# Altium footprint library L_SMD_3D.PcbLib: 12 footprints
Each footprint in its own frame and in the unit in brackets; x right, y up, seen from the top. Pads: shape width x height; smd on the part's side, far side on the other; paste and mask are expansions set on the pad; w line width, h text height; cw(c..) or ccw(c..) is an arc to the next point about the centre after c.
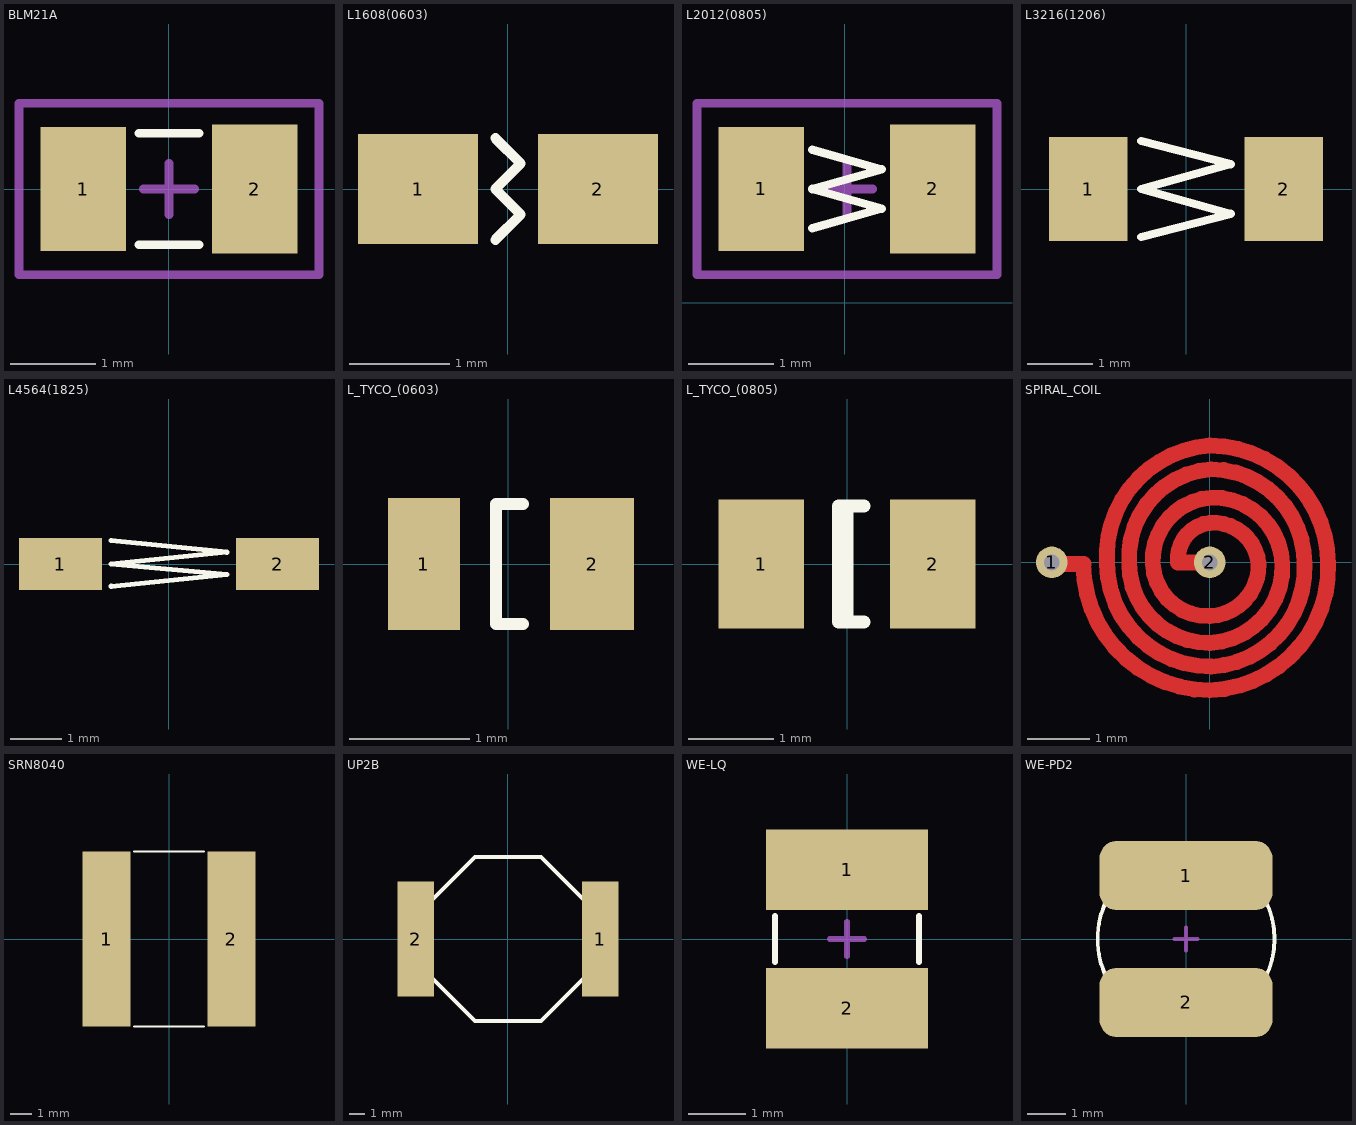
[diagram p0: the footprints below, top view; thin cyan lines are the x and y axes]

## BLM21A [mm] "Ferrit Bead 2x1.25mm"
height 0.9
pads (2):
  rect 1x1.45 smd: 1(-1,0)
  rect 1x1.5 smd: 2(1,0)
Top Overlay:
  lines w0.1: -0.35,-0.65 0.35,-0.65 ; -0.35,0.65 0.35,0.65
Pick&Place:
  lines w0.1: -0.3,0 0.3,0 ; 0,-0.3 0,0.3 ; -1.75,-1 1.75,-1 1.75,1 -1.75,1 -1.75,-1
3D body: height 0.9, standoff 0, extent -1.05,-0.6 -0.6,0.6
3D body: height 0.9, standoff 0, extent 0.6,-0.6 1.05,0.6
3D body: height 0.9, standoff 0, extent -0.6,-0.6 0.6,0.6

## L1608(0603) [mm] "Chip Inductor, Body 1.6x0.8mm"
height 0.71
pads (2):
  rect 1.2x1.1 smd: 1(-0.9,0) 2(0.9,0)
Top Overlay:
  lines w0.1: -0.127,-0.508 0.127,-0.254 -0.127,0 0.127,0.254 -0.127,0.508

## L2012(0805) [mm] "Chip Inductor; Body 2.0 x 1.2 mm"
height 1.2
pads (2):
  rect 1x1.45 smd: 1(-0.975,1.325)
  rect 1x1.5 smd: 2(1.025,1.325)
Top Overlay:
  lines w0.1: -0.381,0.868 0.431,1.096 -0.381,1.325 0.431,1.554 -0.381,1.782
Pick&Place:
  lines w0.1: -0.275,1.325 0.325,1.325 ; 0.025,1.025 0.025,1.625 ; -1.725,0.325 1.775,0.325 1.775,2.325 -1.725,2.325 -1.725,0.325
3D body: height 0.6, standoff 0, extent -1.025,0.725 -0.575,1.925
3D body: height 0.6, standoff 0, extent 0.625,0.725 1.075,1.925
3D body: height 0.6, standoff 0, extent -0.575,0.725 0.625,1.925

## L3216(1206) [mm] "Chip Inductor; Body 3.2 x 1.6 mm"
height 1.9
pads (2):
  rect 1.2x1.6 smd: 1(-1.5,0) 2(1.5,0)
Top Overlay:
  lines w0.127: -0.686,-0.737 0.686,-0.381 -0.686,0 0.686,0.381 -0.686,0.737

## L4564(1825) [mm] "Chip Inductor; Body 4.5 x 6.4 mm"
height 1.9
pads (2):
  rect 1.6x1 smd: 1(-2.1,0) 2(2.1,0)
Top Overlay:
  lines w0.1: -1.118,-0.432 1.118,-0.203 -1.118,0 1.118,0.229 -1.118,0.457

## L_TYCO_(0603) [mm] "Chip Inductor; 1,8 x 1,1 mm"
height 1
pads (2):
  rect 0.6x1.1 smd: 1(-0.7,0)
  rect 0.7x1.1 smd: 2(0.7,0)
Top Overlay:
  lines w0.1: 0.125,-0.5 -0.1,-0.5 -0.1,0.5 0.125,0.5
3D body: height 0.3, standoff 0.25, extent 0.25,-0.475 0.375,0.475
3D body: height 0.3, standoff 0.25, extent 0.125,-0.475 0.25,0.475
3D body: height 0.3, standoff 0.25, extent 0,-0.475 0.125,0.475
3D body: height 0.3, standoff 0.25, extent -0.125,-0.475 0,0.475
3D body: height 0.3, standoff 0.25, extent -0.25,-0.475 -0.125,0.475
3D body: height 0.3, standoff 0.25, extent -0.35,-0.475 -0.25,0.475
3D body: height 1, standoff 0.6, extent -0.9,-0.55 -0.875,0.55
3D body: height 1, standoff 0.6, extent 0.875,-0.55 0.9,0.55
3D body: height 1, standoff 0.6, extent -0.9,-0.55 0.9,-0.525
3D body: height 1, standoff 0.6, extent -0.9,0.525 0.9,0.55
3D body: height 0.9, standoff 0.2, extent 0.575,-0.525 0.875,0.525
3D body: height 0.9, standoff 0.2, extent -0.875,-0.525 -0.575,0.525
3D body: height 0.9, standoff 0.3, extent -0.875,-0.475 0.875,0.475
3D body: height 1, standoff 0.95, extent -0.9,-0.55 0.9,0.55
3D body: height 0.2, standoff 0, extent -0.9,-0.525 -0.55,0.525
3D body: height 0.2, standoff 0, extent 0.55,-0.525 0.9,0.525
3D body: height 0.95, standoff 0.9, extent -0.35,-0.475 -0.25,0.475
3D body: height 0.95, standoff 0.9, extent -0.25,-0.475 -0.125,0.475
3D body: height 0.95, standoff 0.9, extent -0.125,-0.475 0,0.475
3D body: height 0.95, standoff 0.25, extent -0.3,-0.525 -0.25,-0.475
3D body: height 0.95, standoff 0.25, extent -0.175,-0.525 -0.125,-0.475
3D body: height 0.95, standoff 0.25, extent -0.05,-0.525 0,-0.475
3D body: height 0.95, standoff 0.25, extent -0.35,0.475 -0.3,0.525
3D body: height 0.95, standoff 0.25, extent -0.25,0.475 -0.2,0.525
3D body: height 0.95, standoff 0.25, extent -0.125,0.475 -0.075,0.525
3D body: height 0.95, standoff 0.9, extent 0,-0.475 0.125,0.475
3D body: height 0.95, standoff 0.9, extent 0.125,-0.475 0.25,0.475
3D body: height 0.95, standoff 0.9, extent 0.25,-0.475 0.375,0.475
3D body: height 0.95, standoff 0.25, extent 0,0.475 0.05,0.525
3D body: height 0.95, standoff 0.25, extent 0.125,0.475 0.175,0.525
3D body: height 0.95, standoff 0.25, extent 0.25,0.475 0.3,0.525
3D body: height 0.95, standoff 0.25, extent 0.075,-0.525 0.125,-0.475
3D body: height 0.95, standoff 0.25, extent 0.2,-0.525 0.25,-0.475
3D body: height 0.95, standoff 0.25, extent 0.325,-0.525 0.375,-0.475

## L_TYCO_(0805) [mm] "Chip Inductor; 2,3 x 1,7 mm"
height 1.4
pads (2):
  rect 1x1.5 smd: 1(-1,0) 2(1,0)
Top Overlay:
  lines w0.15: 0,-0.675 0,0.675 ; 0.2,-0.675 -0.1,-0.675 -0.1,0.675 0.2,0.675
3D body: height 0.4, standoff 0.35, extent 0.375,-0.65 0.5,0.65
3D body: height 0.4, standoff 0.35, extent 0.25,-0.65 0.375,0.65
3D body: height 0.4, standoff 0.35, extent 0.125,-0.65 0.25,0.65
3D body: height 0.4, standoff 0.35, extent 0,-0.65 0.125,0.65
3D body: height 0.4, standoff 0.35, extent -0.125,-0.65 0,0.65
3D body: height 0.4, standoff 0.35, extent -0.25,-0.65 -0.125,0.65
3D body: height 0.4, standoff 0.35, extent -0.375,-0.65 -0.25,0.65
3D body: height 0.4, standoff 0.35, extent -0.5,-0.65 -0.375,0.65
3D body: height 1.4, standoff 0.6, extent -1.1,-0.8 -1.05,0.8
3D body: height 1.4, standoff 0.6, extent 1.05,-0.8 1.1,0.8
3D body: height 1.4, standoff 0.6, extent -1.1,-0.8 1.1,-0.75
3D body: height 1.4, standoff 0.6, extent -1.1,0.75 1.1,0.8
3D body: height 0.4, standoff 0.2, extent 0.65,-0.65 1,0.65
3D body: height 0.4, standoff 0.2, extent -1,-0.65 -0.65,0.65
3D body: height 1.4, standoff 1.35, extent -1.1,-0.8 1.1,0.8
3D body: height 1.3, standoff 0.4, extent -1,-0.65 1,0.65
3D body: height 0.2, standoff 0, extent -1.15,-0.65 -0.65,0.65
3D body: height 0.2, standoff 0, extent 0.65,-0.65 1.15,0.65
3D body: height 1.35, standoff 1.3, extent -0.5,-0.65 -0.375,0.65
3D body: height 1.35, standoff 1.3, extent -0.375,-0.65 -0.25,0.65
3D body: height 1.35, standoff 1.3, extent -0.25,-0.65 -0.125,0.65
3D body: height 1.35, standoff 1.3, extent -0.125,-0.65 0,0.65
3D body: height 1.35, standoff 0.35, extent -0.425,-0.7 -0.375,-0.65
3D body: height 1.35, standoff 0.35, extent -0.3,-0.7 -0.25,-0.65
3D body: height 1.35, standoff 0.35, extent -0.175,-0.7 -0.125,-0.65
3D body: height 1.35, standoff 0.35, extent -0.05,-0.7 0,-0.65
3D body: height 1.35, standoff 0.35, extent -0.375,0.65 -0.325,0.7
3D body: height 1.35, standoff 0.35, extent -0.5,0.65 -0.45,0.7
3D body: height 1.35, standoff 0.35, extent -0.25,0.65 -0.2,0.7
3D body: height 1.35, standoff 0.35, extent -0.125,0.65 -0.075,0.7
3D body: height 1.35, standoff 1.3, extent 0,-0.65 0.125,0.65
3D body: height 1.35, standoff 1.3, extent 0.125,-0.65 0.25,0.65
3D body: height 1.35, standoff 1.3, extent 0.25,-0.65 0.375,0.65
3D body: height 1.35, standoff 1.3, extent 0.375,-0.65 0.5,0.65
3D body: height 1.35, standoff 0.35, extent 0,0.65 0.05,0.7
3D body: height 1.35, standoff 0.35, extent 0.125,0.65 0.175,0.7
3D body: height 1.35, standoff 0.35, extent 0.25,0.65 0.3,0.7
3D body: height 1.35, standoff 0.35, extent 0.375,0.65 0.425,0.7
3D body: height 1.35, standoff 0.35, extent 0.075,-0.7 0.125,-0.65
3D body: height 1.35, standoff 0.35, extent 0.2,-0.7 0.25,-0.65
3D body: height 1.35, standoff 0.35, extent 0.325,-0.7 0.375,-0.65
3D body: height 1.35, standoff 0.35, extent 0.45,-0.7 0.5,-0.65

## SPIRAL_COIL [mil] "Sample Coil"
pads (2):
  round 20 hole 10 unplated: 1(-100,0) 2(0,0)
Top Layer:
  lines w10: -100,-1 -80,-1 ccw(c0,-1) 0,-81 ccw(c-2.5,-3.5) 75,-1 ccw(c0,-1) 0,74 ccw(c5,4) -65,-1 ccw(c0.5,-0.5) 1,-66 ccw(c-2,-4) 60,-1 ccw(c0.5,-0.5) 1,59 ccw(c5,3) -51,-1 ccw(c-0.5,-0.5) 0,-51 ccw(c-2,-3) 46,-1 ccw(c2.5,-2.5) 1,41 ccw(c3.5,1.5) -36,-1 ccw(c-1.5,0.5) 0,-34 ccw(c-1,-2) 31,-1 ccw(c2.5,-3.5) 0,25 ccw(c2.5,2.5) -20,0 0,0

## SRN8040 [mm] "Bourns; Dia 8mm"
height 4
pads (2):
  rect 2.2x8 smd: 1(-2.85,0) 2(2.85,0)
Top Overlay:
  lines w0.1: -1.6,-4 1.6,-4 ; -1.6,4 1.6,4
3D body: height 3.1, standoff 1.2, extent -3.472,-3.493 3.5,3.493
3D body: height 1.2, standoff 0, extent -4.012,-4.012 4.01,4.01
3D body: height 4, standoff 3.1, extent -4.011,-4.011 4.011,4.011

## UP2B [mm] "Inductor"
height 5
pads (2):
  rect 2.3x7.3 smd: 1(5.85,0) 2(-5.85,0)
Top Overlay:
  lines w0.254: -5.2,-2.1 -2.1,-5.2 2.1,-5.2 5.2,-2.1 5.2,2.1 2.1,5.2 -2.1,5.2 -5.2,2.1 -5.2,-2.1
3D body: height 5.2, standoff 0, extent -5.201,-5.201 5.201,5.201
3D body: height 2.5, standoff 0, extent -6.5,-2.1 -5.2,2.2
3D body: height 2.5, standoff 0, extent 5.2,-2.15 6.475,2.15

## WE-LQ [mm] "COIL"
height 2.3
pads (2):
  rect 2.8x1.4 smd: 1(0,1.2) 2(0,-1.2)
Top Overlay:
  lines w0.1: -1.25,-0.4 -1.25,0.4 ; 1.25,-0.4 1.25,0.4
Pick&Place:
  lines w0.1: -0.3,0 0.3,0 ; 0,-0.3 0,0.3
3D body: height 1.8, standoff 0.2, extent -1.091,-1.098 1.1,1.098
3D body: height 2, standoff 1.8, extent -1.25,-1.2 1.25,1.2
3D body: height 0.2, standoff 0, extent -1.25,-1.6 1.25,1.6

## WE-PD2 [mm] "COIL"
height 3.5
pads (2):
  rrect50% 4.5x1.8 smd: 1(0,1.65) 2(0,-1.65)
Top Overlay:
  circle w0.1: c0,0 r2.3
Pick&Place:
  lines w0.1: -0.3,0 0.3,0 ; 0,-0.3 0,0.3
3D body: height 0.8, standoff 0, extent -2.3,-2.3 2.282,2.291
3D body: height 3.2, standoff 2.4, extent -2.3,-2.3 2.282,2.291
3D body: height 2.4, standoff 0.8, extent -1.8,-1.8 1.786,1.793